# Altium schematic symbol library Diode_Schottky.Schlib: 1 symbol
Pins are listed as number, name and electrical type; pins without a type are passive.

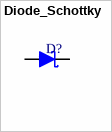
[diagram p0: symbol Diode_Schottky]

## Diode_Schottky
designator D?
Schottky Diode
pins: A, C